# Altium footprint library PcbLib1.PcbLib: 8 footprints
Each footprint in its own frame and in the unit in brackets; x right, y up, seen from the top. Pads: shape width x height; smd on the part's side, far side on the other; paste and mask are expansions set on the pad; w line width, h text height; cw(c..) or ccw(c..) is an arc to the next point about the centre after c.
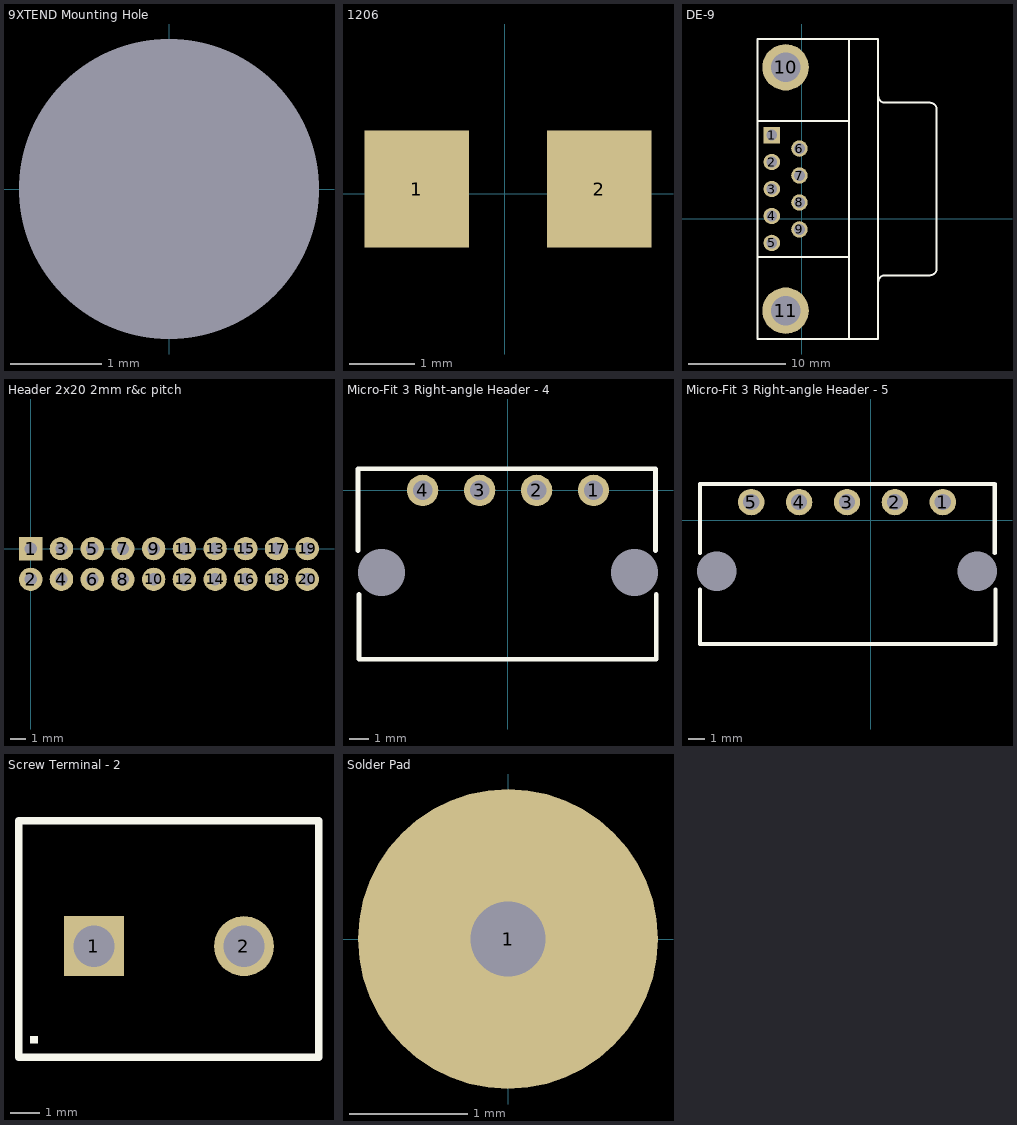
[diagram p0: the footprints below, top view; thin cyan lines are the x and y axes]

## 9XTEND Mounting Hole [mm]
pads (1):
  round 0 hole 3.3 unplated: 0(0,0)

## 1206 [mm] "1206 passive component"
pads (2):
  rect 1.6x1.8 smd: 1(-1.349,0.076) 2(1.451,0.076)

## DE-9 [mm] "Serial connector DE-9"
pads (11):
  rect 1.69x1.69 hole 1.092: 1(-3.097,8.588)
  round 1.69 hole 1.092: 2(-3.097,5.818) 3(-3.097,3.048) 4(-3.097,0.278) 5(-3.097,-2.492) 6(-0.257,7.203) 7(-0.257,4.433) 8(-0.257,1.663) 9(-0.257,-1.107)
  round 4.76 hole 3.048: 10(-1.677,15.543) 11(-1.677,-9.447)
Top Overlay:
  lines w0.2: -4.577,-3.952 4.823,-3.952 ; -4.577,10.048 4.823,10.048 ; 4.823,-12.352 4.823,18.448 ; 7.828,-6.512 cw(c8.523,-6.512) 8.523,-5.817 13.123,-5.817 ; 7.828,12.608 ccw(c8.523,12.608) 8.523,11.913 13.123,11.913 ; 13.128,-5.812 ccw(c13.128,-5.117) 13.823,-5.117 13.823,11.213 ccw(c13.128,11.213) 13.128,11.908 ; -4.577,-12.352 -4.577,18.448 7.823,18.448 7.823,-12.352 -4.577,-12.352

## Header 2x20 2mm r&c pitch [mm] "2 row, 20 pin through-hole header with a row and column pitch of 2mm"
pads (20):
  rect 1.524x1.524 hole 0.8: 1(0,0)
  round 1.524 hole 0.8: 2(0,-2) 3(2,0) 4(2,-2) 5(4,0) 6(4,-2) 7(6,0) 8(6,-2) 9(8,0) 10(8,-2) 11(10,0) 12(10,-2) 13(12,0) 14(12,-2) 15(14,0) 16(14,-2) 17(16,0) 18(16,-2) 19(18,0) 20(18,-2)

## Micro-Fit 3 Right-angle Header - 4 [mil] "4 pin right-angle female header"
height 219
pads (6):
  round 65 hole 40: 1(178,0) 2(60,0) 3(-58,0) 4(-176,0)
  round 0 hole 97 unplated: 5(-261,-170) 6(263,-170)
Top Overlay:
  lines w10: -310,-125 -310,45 306,45 306,-125 ; -308,-215 -308,-350 308,-350 308,-215
3D body: height 172, standoff 0, extent -310,-350 305,45

## Micro-Fit 3 Right-angle Header - 5 [mil] "5 pin right-angle female header"
height 219
pads (7):
  round 65 hole 40: 1(178,45) 2(60,45) 3(-58,45) 4(-176,45) 5(-294,45)
  round 0 hole 97 unplated: 6(-379,-125) 7(263,-125)
Top Overlay:
  lines w10: -420,-170 -420,-305 308,-305 308,-170 ; -420,-80 -420,90 306,90 306,-80
3D body: height 172, standoff 0, extent -420,-305.91 305,90

## Screw Terminal - 2 [mil] "A through-hole screw terminal with two circuits"
height 0.39
pads (2):
  rect 80x80 hole 55.12: 1(400,950)
  round 80 hole 55.12: 2(600,950)
Top Overlay:
  rectangle: 315,820 325,830
  lines w10: 300,802 300,1117 700,1117 700,802 300,802
3D body: height 394, standoff 0, extent 300,805 700,1115

## Solder Pad [mil] "A solder pad for manually jumping traces"
pads (1):
  round 100 hole 25 unplated: 1(0,0)